# EAGLE library part ARDUINO_UNO (library LocalLib)
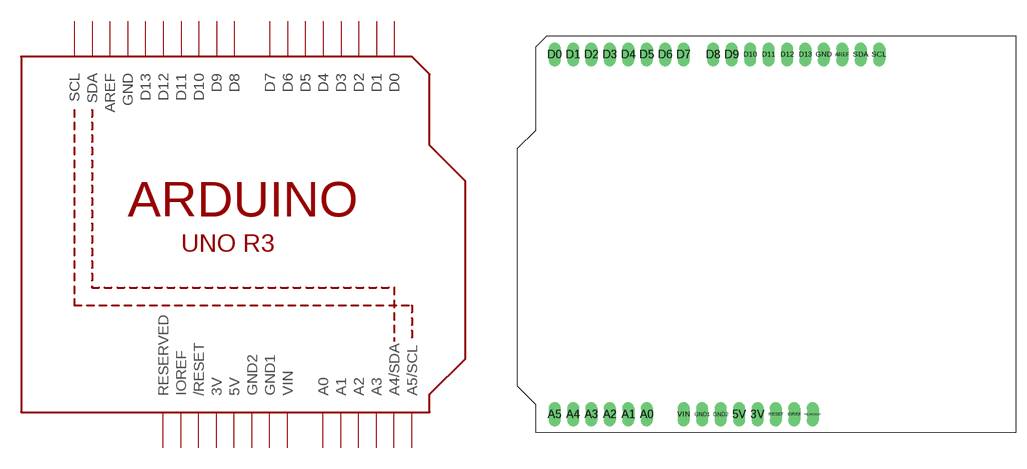
[diagram p0: symbol with the pads of ARDUINO_UNO; footprint ARDUINO_UNO]

Designator prefix -

## ARDUINO_UNO  [ARDUINO_UNO]
3V  3V  pwr
5V  5V  pwr
A0  A0
A1  A1
A2  A2
A3  A3
A4  A4/SDA
A5  A5/SCL
AREF  AREF
D0  D0
D1  D1
D2  D2
D3  D3
D4  D4
D5  D5
D6  D6
D7  D7
D8  D8
D9  D9
D10  D10
D11  D11
D12  D12
D13  D13
GND  GND  pwr
GND1  GND1  pwr
GND2  GND2  pwr
IOREF  IOREF  out
RESERVED  RESERVED  nc
RESET  /RESET
SCL  SCL
SDA  SDA
VIN  VIN  pwr

## Footprint ARDUINO_UNO (pad centres in mm)
drill 1 pad 1.676 long: 3V -35.56,2.54; 5V -38.1,2.54; A0 -50.8,2.54; A1 -53.34,2.54; A2 -55.88,2.54; A3 -58.42,2.54; A4 -60.96,2.54; A5 -63.5,2.54; AREF -23.876,52.07; D0 -63.5,52.07; D1 -60.96,52.07; D2 -58.42,52.07; D3 -55.88,52.07; D4 -53.34,52.07; D5 -50.8,52.07; D6 -48.26,52.07; D7 -45.72,52.07; D8 -41.656,52.07; D9 -39.116,52.07; D10 -36.576,52.07; D11 -34.036,52.07; D12 -31.496,52.07; D13 -28.956,52.07; GND -26.416,52.07; GND1 -43.18,2.54; GND2 -40.64,2.54; IOREF -30.48,2.54; RESERVED -27.94,2.54; RESET -33.02,2.54; SCL -18.796,52.07; SDA -21.336,52.07; VIN -45.72,2.54